# EAGLE library part AD8221 (library kblom)
Precision Instrumentation Amplifier Applications: Weigh scales Industrial process controls Bridge amplifiers Precision data acquisition systems Medical instrumentation Strain gages Transducer interfaces source <http://www.analog.com/static/imported-files/data_sheets/AD8221.pdf> inamp
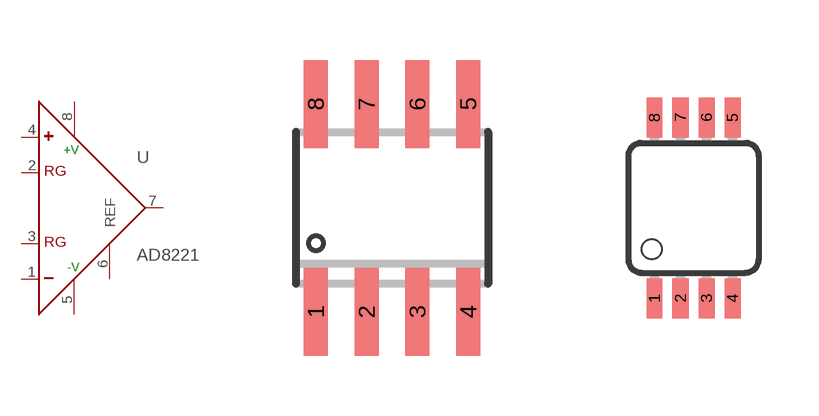
[diagram p13: symbol with the pads of SO8; footprints SO8, MSOP8]

Designator prefix U

## AD8221AR  [SO8]
1  -  in
2  RG  pas
3  RG  pas
4  +  in
5  -V  pwr
6  REF  pas
7  OUT  out
8  +V  pwr

## AD8221ARM  [MSOP8]
Pads as for SO8

## Footprint SO8 (pad centres in mm)
SMALL OUTLINE INTEGRATED CIRCUIT
smd 0.6 x 2.2: 1 -1.905,-2.6; 2 -0.635,-2.6; 3 0.635,-2.6; 4 1.905,-2.6; 5 1.905,2.6; 6 0.635,2.6; 7 -0.635,2.6; 8 -1.905,2.6

## Footprint MSOP8 (pad centres in mm)
8-Lead micro SO (RM-8) Source: http://www.analog.com/UploadedFiles/Data_Sheets/703465986AD8611_2_0.pdf
smd 0.4 x 1: 1 -0.976,-2.263; 2 -0.326,-2.263; 3 0.324,-2.263; 4 0.974,-2.263; 5 0.974,2.262; 6 0.324,2.262; 7 -0.326,2.262; 8 -0.976,2.262